# Altium footprint library BatterieHolder.PcbLib: 4 footprints
Each footprint in its own frame and in the unit in brackets; x right, y up, seen from the top. Pads: shape width x height; smd on the part's side, far side on the other; paste and mask are expansions set on the pad; w line width, h text height; cw(c..) or ccw(c..) is an arc to the next point about the centre after c.
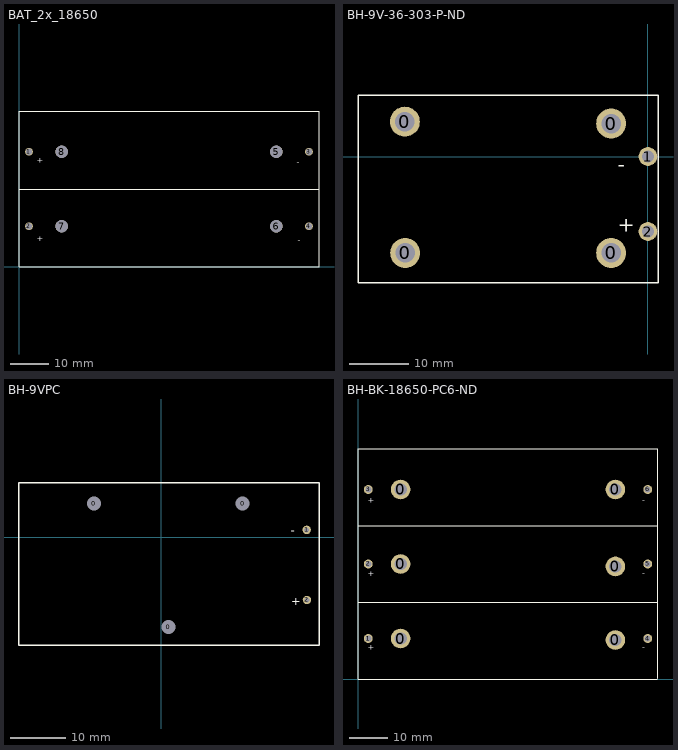
[diagram p0: the footprints below, top view; thin cyan lines are the x and y axes]

## BAT_2x_18650 [mm]
pads (8):
  round 2 hole 1.6: 1(2.59,29.755) 2(2.59,10.445) 3(75.09,29.755) 4(75.09,10.445)
  round 3.2 hole 3.2 unplated: 5(66.66,29.755) 6(66.66,10.445) 7(11.04,10.455) 8(11.04,29.755)
Top Overlay:
  lines w0.254: 0,20.105 77.7,20.105 ; 0,0 77.7,0 77.7,40.21 0,40.21 0,0
  text "-" at 72.136,6.096 h1.52
  text "-" at 71.882,26.416 h1.52
  text "+" at 4.572,6.604 h1.52
  text "+" at 4.572,26.924 h1.52
3D body "18650 x 2.step": height 21.5, standoff -3.2, extent 0,0 78,40.5

## BH-9V-36-303-P-ND [mil] "Battery holder 9V"
height 562
pads (6):
  round 200 hole 130: 0(-1620.5,232) 0(-1618.5,-643) 0(-245.5,-643) 0(-245.5,220)
  round 125 hole 81: 1(0,0) 2(0,-500)
Top Overlay:
  lines w10: -1933,-841.5 -1933,408.5 67,408.5 67,-841.5 -1933,-841.5
  text "-" at -200,-100 h100
  text "+" at -200,-500 h100

## BH-9VPC [mil] "Connecteur qui ressemble à un morse"
pads (5):
  round 60 hole 100: 0(-480,240) 0(51,-640) 0(582,240)
  round 60 hole 35: 1(1038,53) 2(1040,-447)
Top Overlay:
  lines w10: -1014,-771 1126,-771 1126,390 -1014,390 -1014,-770
  text "+" at 927,-484 h60
  text "-" at 923,20 h60

## BH-BK-18650-PC6-ND [mil] "Battery holder 3 cell 18650 lithium"
height 848.03
pads (12):
  round 200 hole 126: 0(435,415) 0(435,1175) 0(435,1935) 0(2625,400) 0(2625,1150) 0(2625,1935)
  round 90 hole 62: 1(105,415) 2(105,1175) 3(105,1935) 4(2955,415) 5(2955,1175) 6(2955,1935)
Top Overlay:
  lines w10: 0,783 3060,783 ; 0,1566 3060,1566 ; 0,0 0,2350 3060,2350 3060,10 3050,0 0,0
  text "+" at 100,300 h60
  text "-" at 2900,300 h60
  text "+" at 100,1050 h60
  text "+" at 100,1800 h60
  text "-" at 2900,1050 h60
  text "-" at 2900,1800 h60